# Altium schematic symbol library WL-SMRW_1206_dome.SchLib: 7 symbols
Pins are listed as number, name and electrical type; pins without a type are passive.

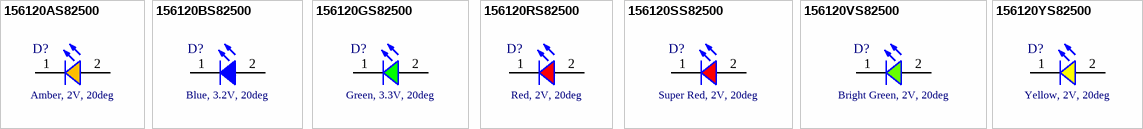
[diagram p0: symbols 156120AS82500 to 156120YS82500]

## 156120AS82500
designator D?, comment Amber, 2V, 20deg
WL-SMRW SMD Mono-color Reverse mount Waterclear, size 1206, Amber, 2V, 20deg; Part Number: 156120AS82500; Peak Wavelength typ.: 609nm; Dominant Wavelength typ.: 605nm; Luminous Intensity typ.: 2200mcd; Chip Technology: AlInGaP; ComponentLink1Description: Manufacturer; ComponentLink1URL: http://www.we-online.de; ComponentLink2Description: Datasheet; ComponentLink2URL: https://katalog.we-online.de/led/datasheet/156120AS82500.pdf; Published Date: June 2019; Publisher: Wurth Elektronik; Size: 1206; Forward Voltage typ.: 2V; Viewing Angle typ.: 20deg; Operating Temperature: -40 to +85degC; Emitting Color: Amber; Mounting Technology: SMT; Packaging: Tape and Reel
footprint WL-SMRW_1206_dome_normal use
footprint WL-SMRW_1206_dome_reverse use
pins: 1 K, 2 A

## 156120BS82500
designator D?, comment Blue, 3.2V, 20deg
WL-SMRW SMD Mono-color Reverse mount Waterclear, size 1206, Blue, 3.2V, 20deg; Part Number: 156120BS82500; Peak Wavelength typ.: 465nm; Dominant Wavelength typ.: 470nm; Luminous Intensity typ.: 700mcd; Chip Technology: InGaN; ComponentLink1Description: Manufacturer; ComponentLink1URL: http://www.we-online.de; ComponentLink2Description: Datasheet; ComponentLink2URL: https://katalog.we-online.de/led/datasheet/156120BS82500.pdf; Published Date: June 2019; Publisher: Wurth Elektronik; Size: 1206; Forward Voltage typ.: 3.2V; Viewing Angle typ.: 20deg; Operating Temperature: -40 to +85degC; Emitting Color: Blue; Mounting Technology: SMT; Packaging: Tape and Reel
footprint WL-SMRW_1206_dome_normal use
footprint WL-SMRW_1206_dome_reverse use
pins: 1 K, 2 A

## 156120GS82500
designator D?, comment Green, 3.3V, 20deg
WL-SMRW SMD Mono-color Reverse mount Waterclear, size 1206, Green, 3.3V, 20deg; Part Number: 156120GS82500; Peak Wavelength typ.: 520nm; Dominant Wavelength typ.: 525nm; Luminous Intensity typ.: 1500mcd; Chip Technology: InGaN; ComponentLink1Description: Manufacturer; ComponentLink1URL: http://www.we-online.de; ComponentLink2Description: Datasheet; ComponentLink2URL: https://katalog.we-online.de/led/datasheet/156120GS82500.pdf; Published Date: June 2019; Publisher: Wurth Elektronik; Size: 1206; Forward Voltage typ.: 3.3V; Viewing Angle typ.: 20deg; Operating Temperature: -40 to +85degC; Emitting Color: Green; Mounting Technology: SMT; Packaging: Tape and Reel
footprint WL-SMRW_1206_dome_normal use
footprint WL-SMRW_1206_dome_reverse use
pins: 1 K, 2 A

## 156120RS82500
designator D?, comment Red, 2V, 20deg
WL-SMRW SMD Mono-color Reverse mount Waterclear, size 1206, Red, 2V, 20deg; Part Number: 156120RS82500; Peak Wavelength typ.: 632nm; Dominant Wavelength typ.: 624nm; Luminous Intensity typ.: 1100mcd; Chip Technology: AlInGaP; ComponentLink1Description: Manufacturer; ComponentLink1URL: http://www.we-online.de; ComponentLink2Description: Datasheet; ComponentLink2URL: https://katalog.we-online.de/led/datasheet/156120RS82500.pdf; Published Date: June 2019; Publisher: Wurth Elektronik; Size: 1206; Forward Voltage typ.: 2V; Viewing Angle typ.: 20deg; Operating Temperature: -40 to +85degC; Emitting Color: Red; Mounting Technology: SMT; Packaging: Tape and Reel
footprint WL-SMRW_1206_dome_normal use
footprint WL-SMRW_1206_dome_reverse use
pins: 1 K, 2 A

## 156120SS82500
designator D?, comment Super Red, 2V, 20deg
WL-SMRW SMD Mono-color Reverse mount Waterclear, size 1206, Super Red, 2V, 20deg; Part Number: 156120SS82500; Peak Wavelength typ.: 645nm; Dominant Wavelength typ.: 630nm; Luminous Intensity typ.: 900mcd; Chip Technology: AlInGaP; ComponentLink1Description: Manufacturer; ComponentLink1URL: http://www.we-online.de; ComponentLink2Description: Datasheet; ComponentLink2URL: https://katalog.we-online.de/led/datasheet/156120SS82500.pdf; Published Date: June 2019; Publisher: Wurth Elektronik; Size: 1206; Forward Voltage typ.: 2V; Viewing Angle typ.: 20deg; Operating Temperature: -40 to +85degC; Emitting Color: Super Red; Mounting Technology: SMT; Packaging: Tape and Reel
footprint WL-SMRW_1206_dome_normal use
footprint WL-SMRW_1206_dome_reverse use
pins: 1 K, 2 A

## 156120VS82500
designator D?, comment Bright Green, 2V, 20deg
WL-SMRW SMD Mono-color Reverse mount Waterclear, size 1206, Bright Green, 2V, 20deg; Part Number: 156120VS82500; Peak Wavelength typ.: 575nm; Dominant Wavelength typ.: 573nm; Luminous Intensity typ.: 1050mcd; Chip Technology: AlInGaP; ComponentLink1Description: Manufacturer; ComponentLink1URL: http://www.we-online.de; ComponentLink2Description: Datasheet; ComponentLink2URL: https://katalog.we-online.de/led/datasheet/156120VS82500.pdf; Published Date: June 2019; Publisher: Wurth Elektronik; Size: 1206; Forward Voltage typ.: 2V; Viewing Angle typ.: 20deg; Operating Temperature: -40 to +85degC; Emitting Color: Bright Green; Mounting Technology: SMT; Packaging: Tape and Reel
footprint WL-SMRW_1206_dome_normal use
footprint WL-SMRW_1206_dome_reverse use
pins: 1 K, 2 A

## 156120YS82500
designator D?, comment Yellow, 2V, 20deg
WL-SMRW SMD Mono-color Reverse mount Waterclear, size 1206, Yellow, 2V, 20deg; Part Number: 156120YS82500; Peak Wavelength typ.: 591nm; Dominant Wavelength typ.: 589nm; Luminous Intensity typ.: 1400mcd; Chip Technology: AlInGaP; ComponentLink1Description: Manufacturer; ComponentLink1URL: http://www.we-online.de; ComponentLink2Description: Datasheet; ComponentLink2URL: https://katalog.we-online.de/led/datasheet/156120YS82500.pdf; Published Date: June 2019; Publisher: Wurth Elektronik; Size: 1206; Forward Voltage typ.: 2V; Viewing Angle typ.: 20deg; Operating Temperature: -40 to +85degC; Emitting Color: Yellow; Mounting Technology: SMT; Packaging: Tape and Reel
footprint WL-SMRW_1206_dome_normal use
footprint WL-SMRW_1206_dome_reverse use
pins: 1 K, 2 A